# Altium integrated library pot.IntLib: 1 symbol
Pins are listed as number, name and electrical type; pins without a type are passive.

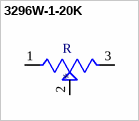
[diagram p0: symbol 3296W-1-20K]

## 3296W-1-20K
designator R
Res Trimmer 20K Ohm 10% 1/2W 25Turn 2.19mm Pin Thru-Hole Tube; MF: Bourns; MP: 3296W-1-20K; Package: None; Value: *; Availability: Unavailable; Price: None; SnapEDA_Link: https://www.snapeda.com/parts/3296W-1-20K/Bourns/view-part/459266/?ref=snap
footprint TRIM_3296W-1-20K
pins: 1 CCW, 2 WIPER, 3 CW